# Altium footprint library FUJISTU_FCN-268D008-G1D.PcbLib: 1 footprints
Each footprint in its own frame and in the unit in brackets; x right, y up, seen from the top. Pads: shape width x height; smd on the part's side, far side on the other; paste and mask are expansions set on the pad; w line width, h text height; cw(c..) or ccw(c..) is an arc to the next point about the centre after c.
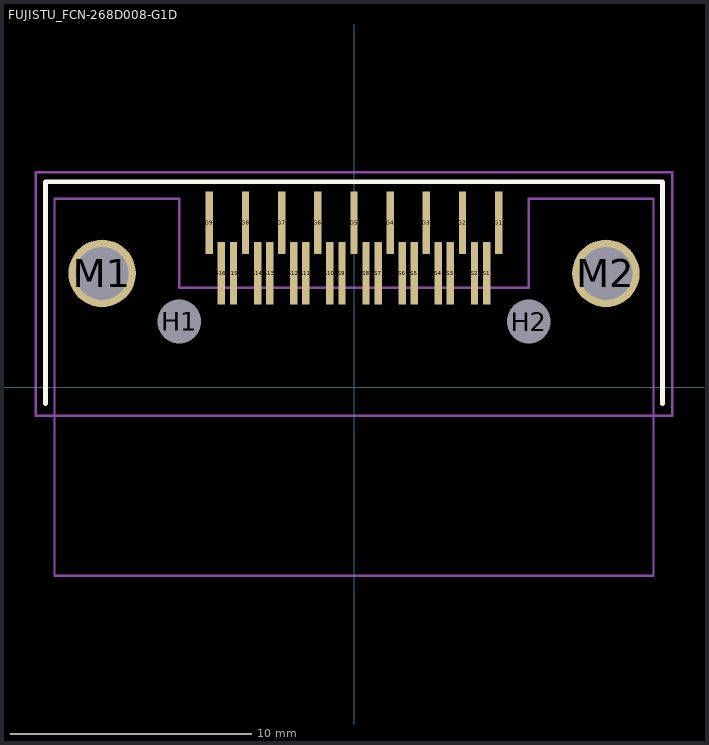
[diagram p0: the footprint, top view; thin cyan lines are the x and y axes]

## FUJISTU_FCN-268D008-G1D [mm]
pads (29):
  rect 0.305x2.6 smd mask+0.08: G1(6,6.825) G2(4.5,6.825) G3(3,6.825) G4(1.5,6.825) G5(0,6.825) G6(-1.5,6.825) G7(-3,6.825) G8(-4.5,6.825) G9(-6,6.825) S1(5.5,4.725) S2(5,4.725) S3(4,4.725) S4(3.5,4.725) S5(2.5,4.725) S6(2,4.725) S7(1,4.725) S8(0.5,4.725) S9(-0.5,4.725) S10(-1,4.725) S11(-2,4.725) S12(-2.5,4.725) S13(-3.5,4.725) S14(-4,4.725) S15(-5,4.725) S16(-5.5,4.725)
  round 1.72 hole 1.82 unplated mask+0.1: H1(-7.25,2.725) H2(7.25,2.725)
  round 2.8 hole 2.2: M1(-10.45,4.725) M2(10.45,4.725)
Top Overlay:
  lines w0.2: -12.8,-0.675 -12.8,8.525 12.8,8.525 12.8,-0.675
Mechanical 13:
  lines w0.1: -12.425,-7.825 -12.425,7.825 -7.25,7.825 -7.25,4.125 7.25,4.125 7.25,7.825 12.425,7.825 12.425,-7.825 -12.425,-7.825
Mechanical 15:
  lines w0.1: -13.2,-1.175 -13.2,8.925 13.2,8.925 13.2,-1.175 -13.2,-1.175
3D body: height 10.98, standoff -1.92, extent -12.425,-7.825 12.425,7.825